# Altium footprint library DCDC_Reg.PcbLib: 1 footprints
Each footprint in its own frame and in the unit in brackets; x right, y up, seen from the top. Pads: shape width x height; smd on the part's side, far side on the other; paste and mask are expansions set on the pad; w line width, h text height; cw(c..) or ccw(c..) is an arc to the next point about the centre after c.
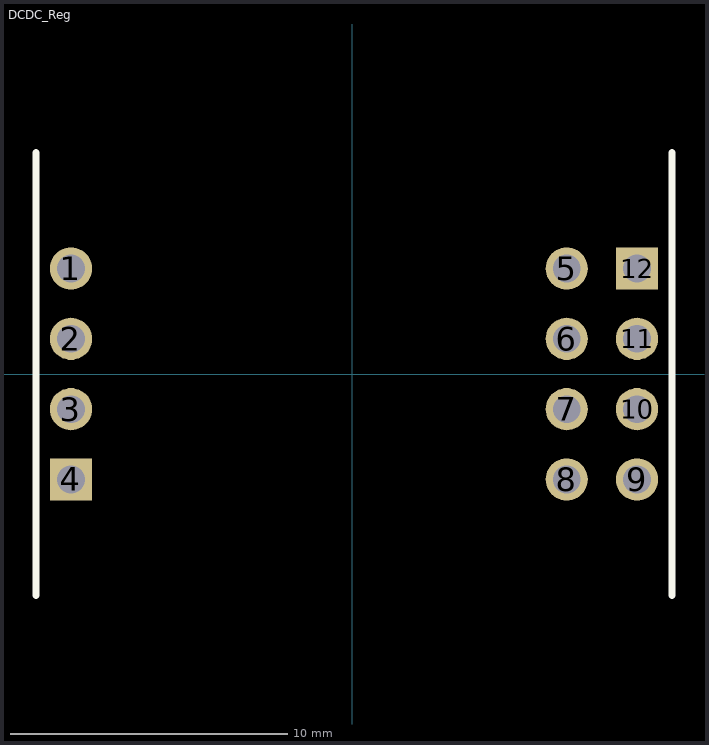
[diagram p0: the footprint, top view; thin cyan lines are the x and y axes]

## DCDC_Reg [mil]
height 629.92
pads (12):
  round 60 hole 39.37: 1(-400,150) 2(-400,50) 3(-400,-50) 5(305,150) 6(305,50) 7(305,-50) 8(305,-150) 9(405,-150) 10(405,-50) 11(405,50)
  rect 60x60 hole 39.37: 4(-400,-150) 12(405,150)
Top Layer:
  pour cut-out: -40,-140
Top Overlay:
  lines w10: -450,-315 -450,315 ; 455,-315 455,315
3D body: height 255.91, standoff 10, extent -450,-315 455,320